# Altium schematic symbol library SG_GOST_Diodes.SchLib: 6 symbols
Pins are listed as number, name and electrical type; pins without a type are passive.

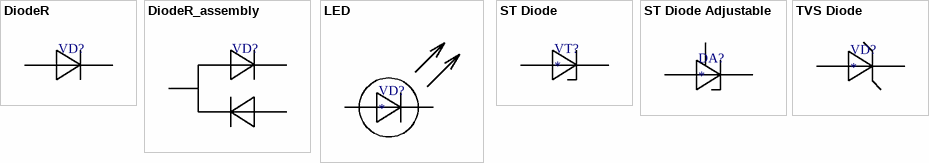
[diagram p0: symbols DiodeR to TVS Diode]

## DiodeR
designator VD?  (value not drawn)
Диод выпрямительный; Voltage: *; Manufaturer: *; ManufaturerCountry: *; Order: ='Диод ' +Value + ', ' + Manufacturer + ', ' + ManufacturerCountry; Value: *
pins: 1 А "Анод", 2 К "Катод"

## DiodeR_assembly
designator VD?  (value not drawn)
Диод выпрямительный сборка; Value: *; Voltage: *; Manufaturer: *; ManufaturerCountry: *; Order: ='Диод ' +Value + ', ' + Manufacturer + ', ' + ManufacturerCountry
footprint SOT23-3
pins: 1 А "Анод", 2 К "Катод", 3 А "Анод"

## LED
designator VD?
Cветодиод; Order: Cветодиод*, *, *; Value: *; ManufacturerCountry: *; Manufacturer: *
footprint LED-0805N (Chip Resistor, 2-Leads, Body 2,10x1,30mm, IPC Medium Density)
pins: 1 А "Анод", 2 К "Катод"

## ST Diode
designator VT?
Стабилитронg; Order: Стабилитрон*, *, *; Value: *; ManufacturerCountry: *; Manufacturer: *
footprint SOD-123-1 (SODFL, 2-Leads, Body 1,50x3,60mm, IPC Medium Density)
pins: A А "Анод", C К "Катод"

## ST Diode Adjustable
designator DA?
Стабилитрон регилируемый (я вообще не уверен, что это гост); Order: Стабилитрон Регулируемый*, *, *; Value: *; ManufacturerCountry: *; Manufacturer: *
footprint SOT23-3
pins: 1 3, 2 К "Катод", 3 А "Анод"

## TVS Diode
designator VD?
Защитный диод (Точность ГОСТа не гарантируется); Order: Защитный диод*, *, *; ManufacturerCountry: *; Value: *; Manufacturer: *
pins: 1 А "Анод", 2 К "Катод"